# EAGLE library part TPS62162 (library Kas-Power Regulator)
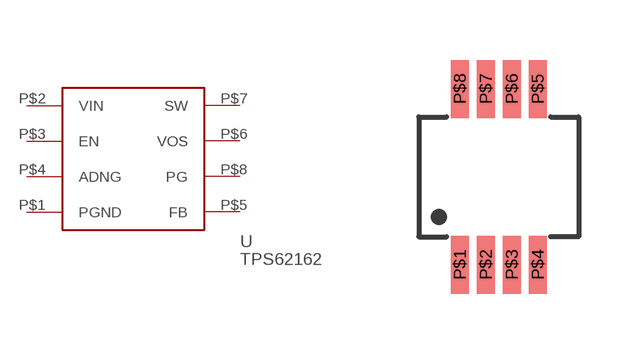
[diagram p2: symbol with the pads of MSOP-8; footprint MSOP-8]

Designator prefix U

## TPS62162 (DATASHEETURL: http://www.ti.com/general/docs/lit/getliterature.tsp?genericPartNumber=tps62162&fileType=pdf; MANFACTURER_PART_NUMBER: TPS62162; MANUFACTURER_NAME: Texas Instruments; MKTG_PACKAGE: DKG)  [MSOP-8]
P$1  PGND
P$2  VIN
P$3  EN
P$4  ADNG
P$5  FB
P$6  VOS
P$7  SW
P$8  PG

## Footprint MSOP-8 (pad centres in mm)
smd 0.45 x 1.45: P$1 -0.975,-2.2; P$2 -0.325,-2.2; P$3 0.325,-2.2; P$4 0.975,-2.2; P$5 0.975,2.2; P$6 0.325,2.2; P$7 -0.325,2.2; P$8 -0.975,2.2